# Altium footprint library Miscellaneous.PcbLib: 8 footprints
Each footprint in its own frame and in the unit in brackets; x right, y up, seen from the top. Pads: shape width x height; smd on the part's side, far side on the other; paste and mask are expansions set on the pad; w line width, h text height; cw(c..) or ccw(c..) is an arc to the next point about the centre after c.
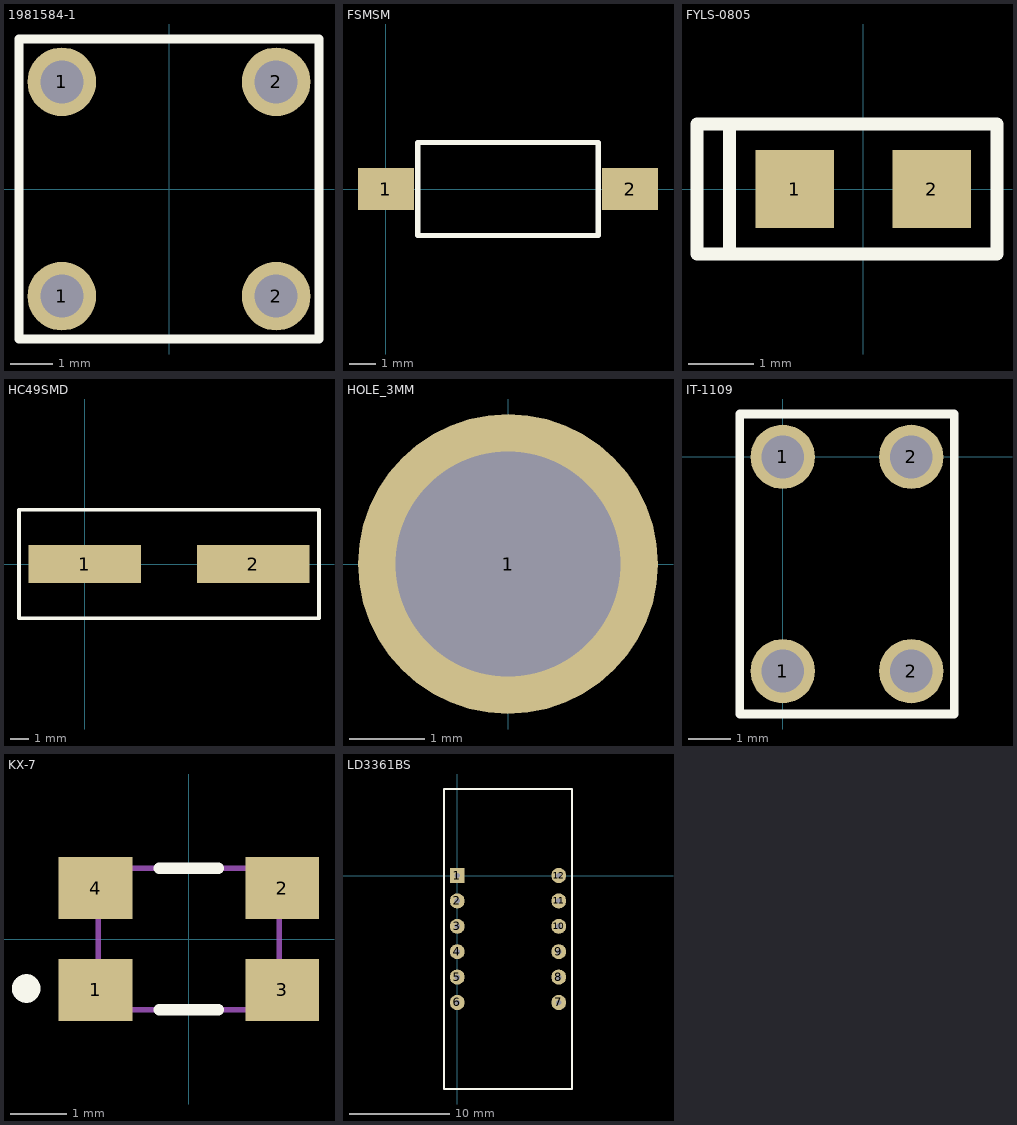
[diagram p0: the footprints below, top view; thin cyan lines are the x and y axes]

## 1981584-1 [mm]
pads (4):
  round 1.6 hole 1: 1(-2.5,-2.5) 1(-2.5,2.5) 2(2.5,-2.5) 2(2.5,2.5)
Top Overlay:
  lines w0.2: -3.5,-3.5 -3.5,3.5 3.5,3.5 3.5,-3.5 -3.5,-3.5

## FSMSM [mm]
height 4.3
pads (2):
  rect 2.1x1.6 smd: 1(0,0) 2(9.2,0)
Top Overlay:
  lines w0.2: 1.2,-1.75 8,-1.75 8,1.75 1.2,1.75 1.2,-1.75
3D body: height 4.4, standoff -0.02, extent -0.335,-1.775 9.634,1.725

## FYLS-0805 [mm] "Diode"
pads (2):
  rect 1.2x1.2 smd: 1(-1.05,0) 2(1.05,0)
Top Overlay:
  lines w0.2: -2.05,-1 -2.05,1 ; -2.55,-1 2.05,-1 2.05,1 -2.55,1 -2.55,-1

## HC49SMD [mm]
pads (2):
  rect 6x2 smd: 1(0,0) 2(9,0)
Top Overlay:
  lines w0.2: -3.5,-2.9 -3.5,2.9 12.5,2.9 12.5,-2.9 -3.5,-2.9

## HOLE_3MM [mm]
pads (1):
  round 4 hole 3: 1(0,0)

## IT-1109 [mm]
pads (4):
  round 1.5 hole 1: 1(0,-5) 1(0,0) 2(3,-5) 2(3,0)
Top Overlay:
  lines w0.2: -1,-6 -1,1 4,1 4,-6 -1,-6

## KX-7 [mm]
pads (4):
  rect 1.3x1.1 smd: 1(-1.65,-0.9) 2(1.65,0.9) 3(1.65,-0.9) 4(-1.65,0.9)
Top Overlay:
  circle w0.25: c-2.875,-0.875 r0.127
  lines w0.2: -0.525,-1.25 0.525,-1.25 ; -0.525,1.25 0.525,1.25
Mechanical 13:
  lines w0.1: -1.6,-1.25 -1.6,1.25 1.6,1.25 1.6,-1.25 -1.6,-1.25

## LD3361BS [mm] "segment four digit LED display 9.14mm"
pads (12):
  rect 1.5x1.5 hole 0.55: 1(0,0)
  round 1.5 hole 0.55: 2(0,-2.54) 3(0,-5.08) 4(0,-7.62) 5(0,-10.16) 6(0,-12.7) 7(10.15,-12.7) 8(10.15,-10.16) 9(10.15,-7.62) 10(10.15,-5.08) 11(10.15,-2.54) 12(10.15,0)
Top Overlay:
  lines w0.2: -1.34,-21.35 11.49,-21.35 11.49,8.65 -1.34,8.65 -1.34,-21.35